# EAGLE library part X9268US24Z (library Intersil_By_element14_Batch_1)
Dual Digitally-Controlled (XDCP) Potentiometers
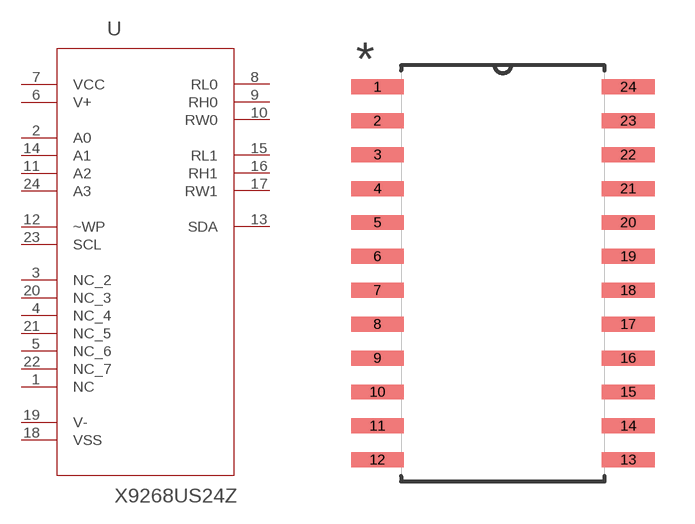
[diagram p230: symbol with the pads of SOIC127P1032X265-24N; footprint SOIC127P1032X265-24N]

Designator prefix U

## X9268US24Z (MPN: X9268US24Z; OC_FARNELL: -; OC_NEWARK: 06M0759; PACKAGE: SOIC-24; SUPPLIER: INTERSIL)  [SOIC127P1032X265-24N]
1  NC  nc
2  A0  in
3  NC_2  nc
4  NC_4  nc
5  NC_6  nc
6  V+  pwr
7  VCC  pwr
8  RL0  pas
9  RH0  pas
10  RW0  pas
11  A2  in
12  ~WP  in
13  SDA
14  A1  in
15  RL1  pas
16  RH1  pas
17  RW1  pas
18  VSS  pas
19  V-  pwr
20  NC_3  nc
21  NC_5  nc
22  NC_7  nc
23  SCL  in
24  A3  in

## Footprint SOIC127P1032X265-24N (pad centres in mm)
smd 1.981 x 0.559: 1 -4.699,6.985; 2 -4.699,5.715; 3 -4.699,4.445; 4 -4.699,3.175; 5 -4.699,1.905; 6 -4.699,0.635; 7 -4.699,-0.635; 8 -4.699,-1.905; 9 -4.699,-3.175; 10 -4.699,-4.445; 11 -4.699,-5.715; 12 -4.699,-6.985; 13 4.699,-6.985; 14 4.699,-5.715; 15 4.699,-4.445; 16 4.699,-3.175; 17 4.699,-1.905; 18 4.699,-0.635; 19 4.699,0.635; 20 4.699,1.905; 21 4.699,3.175; 22 4.699,4.445; 23 4.699,5.715; 24 4.699,6.985